# EAGLE library part GSB316441CEU (library USB connector)
CONN PLUG USB3.0 TYPEA 9P SMD RA Manufacturer's datasheet <https://www.amphenol-icc.com/media/wysiwyg/files/drawing/gsb3164x1ceu.pdf?__cf_chl_jschl_tk__=1d7f141f40b329259fdf28a61352f52498e1af51-1588517555-0-AXWum5xYEck2phDzdndUsAr0F3tOc9_FYL380ACKf7qTWQBhX-IqSw75rFuhR_165o8QbOilM07tKNtQY7Tc5Ap4h9Rgaj4NRQDPMh5gtNXmMHVdmLOneXIPbH1HV5BvLunAbF1BEltD9PavpsOVya20v6YjI-DwQ6Mr24KYltvlg7wRlQvDOHyV0x57TPCVeuC9ZTvz1GSdUa-mrPVX3TsuGhTDfg01y4Gg3471Lg7Zj6SYG1Tiy1SIkRZYxggFYQqiYQkagfMZ_kma5EzMzBVLBUNm21Blkk-NihoYiU8Is3L1Oo3y-g9i-uosUlCxfvDwFYbemEBFRnnes-8CBc6RnCpETvtrHpu_R7ENyYLe1nu5Xi2wFEfam-L-P-FZ8QgUoMmR6EjkNZOyPTdcilU>
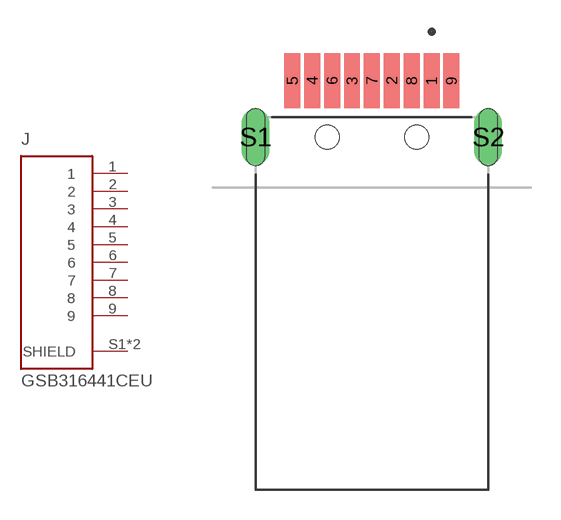
[diagram p9: symbol with the pads of GSB316441CEU; footprint GSB316441CEU]

Designator prefix J

## GSB316441CEU (CREATED_BY: PCBLayout.com; DIGIKEY_PARTNO: GSB316441CEUTR-ND; MANUFACTURER: Amphenol ICC (Commercial Products); MPN: GSB316441CEU)  [GSB316441CEU]
1  1  pas
2  2  pas
3  3  pas
4  4  pas
5  5  pas
6  6  pas
7  7  pas
8  8  pas
9  9  pas
S1  SHIELD  pas
S2  SHIELD  pas

## Footprint GSB316441CEU (pad centres in mm)
smd 0.8 x 2.78: 1 3,2.84; 2 1,2.84; 3 -1,2.84; 4 -3,2.84; 5 -4,2.84; 6 -2,2.84; 7 0,2.84; 8 2,2.84; 9 4,2.84
drill 0.9 long: S1 -5.85,0; S2 5.85,0
hole 1.2 at 2.25,0
hole 1.2 at -2.25,0